# Altium schematic symbol library WISP_AD10.SchLib: 48 symbols
Pins are listed as number, name and electrical type; pins without a type are passive.

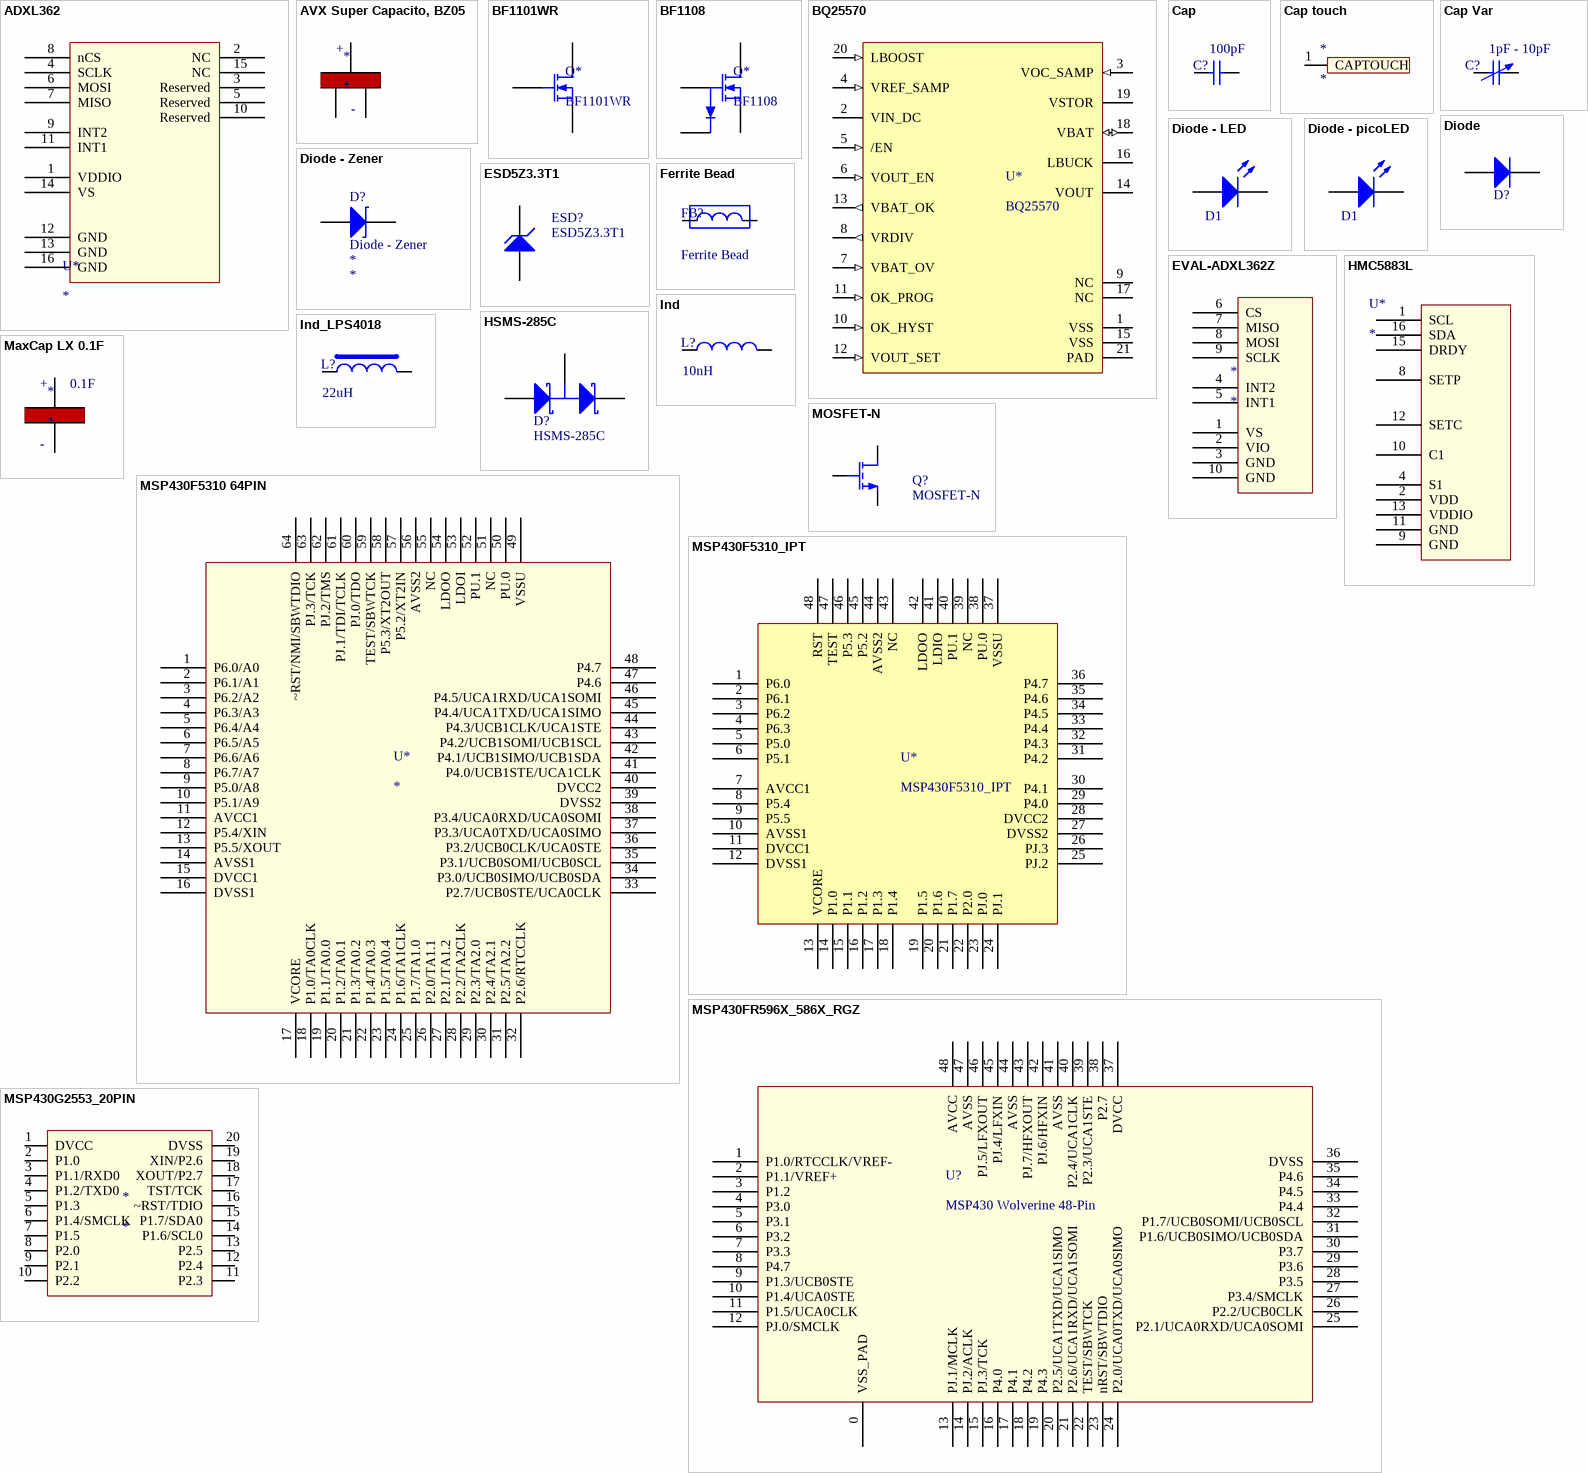
[diagram p0: symbols ADXL362 to MSP430G2553_20PIN]

## ADXL362
designator U*
Analog Devices low power accelerometer
footprint ADXL362
pins: 1 VDDIO, 2 NC, 3 Reserved, 4 SCLK, 5 Reserved, 6 MOSI, 7 MISO, 8 nCS, 9 INT2, 10 Reserved, 11 INT1, 12 GND, 13 GND, 14 VS, 15 NC, 16 GND

## AVX Super Capacito, BZ05
designator *
AVX Super Capacito, BZ05
footprint SuperCap_BZ05 (SOT-323/SC-70; 3 Leads; HSMS-285C)
pins: 1 Positive (power), 2 NEGATIVE (power), 3 NEGATIVE (power)
text: +; -

## BF1101WR
designator Q*
N-Channel Dual-Gate Mos-Fets MOSFET, SOT343R; Manufacturer Part Number: BF1101WR,115; Manufacturer: NXP Semiconductors; Digi-Key Part Number: 568-6140-1-ND; Rating: *; Value: *; Note: *
footprint SOT343R (SOT343R - Package for BF1101WR)
pins: 1 S, 2 D, 3 G

## BF1108
designator Q*
N-Channel Dual-Gate Mos-Fets MOSFET, SOT343R; Manufacturer Part Number: BF1108; BF1108R; Manufacturer: NXP Semiconductors; Rating: *; Value: *; Note: *
footprint SOT143B (SOT343R - Package for BF1101WR)
pins: 1 FET Gate, 2 Diode Cathode, 3 Source, 4 Drain

## BQ25570
designator U*
Boost Charger; Manufacturer: Texas Instruments; Digi-Key Part Number: 296-37014-1-ND; Manufacturer Part Number: bq25570; Rating: *; Value: *; Note: *
footprint BQ25570 (Boost Charger)
pins: 1 VSS, 2 VIN_DC, 3 VOC_SAMP (in), 4 VREF_SAMP (in), 5 /EN (in), 6 VOUT_EN (in), 7 VBAT_OV (in), 8 VRDIV (out), 9 NC, 10 OK_HYST (in), 11 OK_PROG (in), 12 VOUT_SET (in), 13 VBAT_OK (out), 14 VOUT, 15 VSS, 16 LBUCK, 17 NC, 18 VBAT (io), 19 VSTOR, 20 LBOOST (in), 21 PAD

## Cap
designator C?  value 100pF  (hidden comment: Cap)
Ceramic Capacitor (Surface Mount); Manufacturer: Generic Ceramic Chip Cap (TBD); Digi-Key Part Number: *; Manufacturer Part Number: *; Note: *; Rating: *
footprint 0402 (Surface Mount; Body 1 x 0.5 mm (LxW typ))
footprint 0402-W (Surface Mount - Wide; Body 1.0 x 0.5 mm (LxW typ))
footprint 0603 (Surface Mount; Body 1.6 x 0.8 mm (LxW typ))
footprint 0603-W (Surface Mount - Wide; Body 1.6 x 0.8 mm (LxW typ))
footprint 0805 (Surface Mount; Body 2.0 x 1.25 mm (LxW typ))
footprint 0805-W (Surface Mount - Wide; Body 2.0 x 1.25 mm (LxW typ))
footprint 1206 (Surface Mount; Body 3.2 x 1.6 mm (LxW typ))
footprint 1206-W (Surface Mount - Wide; Body 3.2 x 1.6 mm (LxW typ))
footprint 1210 (Surface Mount; Body 3.2 x 2.5 mm (LxW typ))
footprint 1210-W (Chip Capacitor; Body 3.2 x 2.5 mm (LxW typ))
pins: 1, 2

## Cap touch
designator *
footprint CAPTOUCH-15mm
pins: 1 CAPTOUCH

## Cap Var
designator C?  value 1pF - 10pF  (hidden comment: Cap Var)
Variable or Adjustable Capacitor; Manufacturer: *; Manufacturer Part Number: *; Digi-Key Part Number: *; Rating: *
footprint Var-Cap_0603_Small (Var-Cap 0603 Compatible High-Q, DK#490-2011-1-ND)
pins: 1, 2

## Diode
designator D?  (value not drawn)
General Purpose Diode; Manufacturer: *; Manufacturer Part Number: *; Digi-Key Part Number: *; Value: *; Rating: *; Note: *
footprint Diode - SOD128 (Diode: Body 1.6 x 0.8 mm (LxW typ))
footprint DIODE - SOD123 (SOD-123; 2 Leads; Body 2.7 x 1.6 mm, (LxW))
footprint SOD-523 (SOD-523 Footprint)
pins: 1 A, 2 C

## Diode - LED
designator D1, comment LED  (value not drawn)
Typical RED, GREEN, YELLOW, AMBER GaAs LED; Digi-Key Part Number: *; Manufacturer: *; Manufacturer Part Number: *; Note: *; Value: *; Rating: *
footprint Diode - 0603 (Diode: Body 1.6 x 0.8 mm (LxW typ))
pins: 1 A, 2 K

## Diode - picoLED
designator D1, comment LED  (value not drawn)
Typical RED, GREEN, YELLOW, AMBER GaAs LED; Digi-Key Part Number: *; Manufacturer: *; Manufacturer Part Number: *; Note: *; Value: *; Rating: *
footprint Diode - 0402 (Diode: Body 1.6 x 0.8 mm (LxW typ))
pins: 1 A, 2 K

## Diode - Zener
designator D?
Manufacturer Part Number: *; Manufacturer: *; Digi-Key Part Number: *; Note: *; Value: *; Rating: *
footprint SOD-523 (SOD-523 Footprint)
pins: 1 A, 2 K

## ESD5Z3.3T1
designator ESD?
5V Overvoltage Protection Zener; Manufacturer Part Number: ESD5Z3.3T1G; Manufacturer: ON Semiconductor; Digi-Key Part Number: ESD5Z3.3T1GOSCT-ND; Value: *; Rating: *; Note: *
footprint SOD-523 (SOD-523 Footprint)
pins: 1 C, 2 A

## EVAL-ADXL362Z
designator *
footprint EVAL-ADXL362Z
pins: 1 VS, 2 VIO, 3 GND, 4 INT2, 5 INT1, 6 CS, 7 MISO, 8 MOSI, 9 SCLK, 10 GND

## Ferrite Bead
designator FB?
Ferrite bead, RF choke; Manufacturer: example: Taiyo Yuden; Manufacturer Part Number: example: BK1608HS330-T; Digi-Key Part Number: example: 587-1871-1-ND; Rating: *; Note: *; Value: *
footprint 0402 (Surface Mount; Body 1 x 0.5 mm (LxW typ))
footprint 0402-W (Surface Mount - Wide; Body 1.0 x 0.5 mm (LxW typ))
footprint 0603 (Surface Mount; Body 1.6 x 0.8 mm (LxW typ))
footprint 0603-W (Surface Mount - Wide; Body 1.6 x 0.8 mm (LxW typ))
footprint 0805 (Surface Mount; Body 2.0 x 1.25 mm (LxW typ))
footprint 0805-W (Surface Mount - Wide; Body 2.0 x 1.25 mm (LxW typ))
footprint 1206 (Surface Mount; Body 3.2 x 1.6 mm (LxW typ))
footprint 1206-W (Surface Mount - Wide; Body 3.2 x 1.6 mm (LxW typ))
pins: 1, 2

## HMC5883L
designator U*
3-Axis Digital Magnetometer
footprint HMC5883L LCC16 0.5mm pitch
pins: 1 SCL, 2 VDD, 3 NC hidden, 4 S1, 5 NC hidden, 6 NC hidden, 7 NC hidden, 8 SETP, 9 GND, 10 C1, 11 GND, 12 SETC, 13 VDDIO, 14 NC hidden, 15 DRDY, 16 SDA

## HSMS-285C
designator D?
Agilent Schottky Diode, Two in Series, Small Package SOT-323; Manufacturer: Avago Technologies US Inc.; Note: *; Digi-Key Part Number: *not stocked; Manufacturer Part Number: HSMS-285C; Rating: *; Value: *
footprint SOT-323, HSMS-285C (SOT-323/SC-70; 3 Leads; HSMS-285C)
pins: 1 A, 2 K, 3 C

## Ind
designator L?  value 10nH  (hidden comment: Ind)
Inductor (Surface Mount); Digi-Key Part Number: *; Manufacturer: *; Manufacturer Part Number: *; Rating: *; Note: *
footprint 0402 (Surface Mount; Body 1 x 0.5 mm (LxW typ))
footprint 0402-W (Surface Mount - Wide; Body 1.0 x 0.5 mm (LxW typ))
footprint 0603 (Surface Mount; Body 1.6 x 0.8 mm (LxW typ))
footprint 0603-W (Surface Mount - Wide; Body 1.6 x 0.8 mm (LxW typ))
footprint 0805 (Surface Mount; Body 2.0 x 1.25 mm (LxW typ))
footprint 0805-W (Surface Mount - Wide; Body 2.0 x 1.25 mm (LxW typ))
footprint 1206 (Surface Mount; Body 3.2 x 1.6 mm (LxW typ))
footprint 1206-W (Surface Mount - Wide; Body 3.2 x 1.6 mm (LxW typ))
footprint 1210 (Surface Mount; Body 3.2 x 2.5 mm (LxW typ))
footprint 1210-W (Chip Capacitor; Body 3.2 x 2.5 mm (LxW typ))
pins: 1, 2

## Ind_LPS4018
designator L?, comment value 22uH  (hidden comment: Ind_LPs4018)
Inductor (Surface Mount); Manufacturer: Coil Craft; Digi-Key Part Number: *; Manufacturer Part Number: *; Rating: *; Note: *
footprint LPS4018 (Inductor)
pins: 1, 2

## MaxCap LX 0.1F
designator *
MaxCap LX 0.1F, low leakage supper cap 5.5v
footprint Maxcap LX 0.1F (Maxcap LX Series, 0.1F, Diameter  11mm, Leads 5.1mm)
pins: 1 Positive (power), 2 GND (power)
text: +; 0.1F; -

## MOSFET-N
designator Q?
N-Channel MOSFET; Digi-Key Part Number: *; Manufacturer Part Number: *; Manufacturer: *; Notes: *; Rating: *
footprint SOT23 - N (SOT23, 3-Leads, Body 2.9x1.3mm, Pitch 0.95mm, Lead Span 2.3mm - Reverse Pinning, IPC Medium Density)
pins: 1 G, 2 S, 3 D

## MSP430F5310 64PIN
designator U*
16-bit Low Power Microcontroller
footprint MSP430F5310 LCC64
pins: 1 P6.0/A0, 2 P6.1/A1, 3 P6.2/A2, 4 P6.3/A3, 5 P6.4/A4, 6 P6.5/A5, 7 P6.6/A6, 8 P6.7/A7, 9 P5.0/A8, 10 P5.1/A9, 11 AVCC1, 12 P5.4/XIN, 13 P5.5/XOUT, 14 AVSS1, 15 DVCC1, 16 DVSS1, 17 VCORE, 18 P1.0/TA0CLK, 19 P1.1/TA0.0, 20 P1.2/TA0.1, 21 P1.3/TA0.2, 22 P1.4/TA0.3, 23 P1.5/TA0.4, 24 P1.6/TA1CLK, 25 P1.7/TA1.0, 26 P2.0/TA1.1, 27 P2.1/TA1.2, 28 P2.2/TA2CLK, 29 P2.3/TA2.0, 30 P2.4/TA2.1, 31 P2.5/TA2.2, 32 P2.6/RTCCLK, 33 P2.7/UCB0STE/UCA0CLK, 34 P3.0/UCB0SIMO/UCB0SDA, 35 P3.1/UCB0SOMI/UCB0SCL, 36 P3.2/UCB0CLK/UCA0STE, 37 P3.3/UCA0TXD/UCA0SIMO, 38 P3.4/UCA0RXD/UCA0SOMI, 39 DVSS2, 40 DVCC2, 41 P4.0/UCB1STE/UCA1CLK, 42 P4.1/UCB1SIMO/UCB1SDA, 43 P4.2/UCB1SOMI/UCB1SCL, 44 P4.3/UCB1CLK/UCA1STE, 45 P4.4/UCA1TXD/UCA1SIMO, 46 P4.5/UCA1RXD/UCA1SOMI, 47 P4.6, 48 P4.7, 49 VSSU, 50 PU.0, 51 NC, 52 PU.1, 53 LDOI, 54 LDOO, 55 NC, 56 AVSS2, 57 P5.2/XT2IN, 58 P5.3/XT2OUT, 59 TEST/SBWTCK, 60 PJ.0/TDO, 61 PJ.1/TDI/TCLK, 62 PJ.2/TMS, 63 PJ.3/TCK, 64 ~RST/NMI/SBWTDIO

## MSP430F5310_IPT
designator U*
IC MCU 16BIT 32KB FLASH 48LQFP, MSP430F5310_IPT; Manufacturer: Texas Instruments; Manufacturer Part Number: MSP430F5310IPTR; Digi-Key Part Number: 296-28193-2-ND; Rating: *; Value: *; Note: *
footprint PT48_L (Thin QFP, 48-Leads, Body 7x7mm, Pitch 0.5mm, IPC High Density)
pins: 1 P6.0, 2 P6.1, 3 P6.2, 4 P6.3, 5 P5.0, 6 P5.1, 7 AVCC1, 8 P5.4, 9 P5.5, 10 AVSS1, 11 DVCC1, 12 DVSS1, 13 VCORE, 14 P1.0, 15 P1.1, 16 P1.2, 17 P1.3, 18 P1.4, 19 P1.5, 20 P1.6, 21 P1.7, 22 P2.0, 23 PJ.0, 24 PJ.1, 25 PJ.2, 26 PJ.3, 27 DVSS2, 28 DVCC2, 29 P4.0, 30 P4.1, 31 P4.2, 32 P4.3, 33 P4.4, 34 P4.5, 35 P4.6, 36 P4.7, 37 VSSU, 38 PU.0, 39 NC, 40 PU.1, 41 LDIO, 42 LDOO, 43 NC, 44 AVSS2, 45 P5.2, 46 P5.3, 47 TEST, 48 RST

## MSP430FR596X_586X_RGZ
designator U?, comment MSP430 Wolverine 48-Pin
16-bit FRAM MCU
footprint MSP_QFN48_RGZ_PAD0
pins: 0 VSS_PAD, 1 P1.0/RTCCLK/VREF-, 2 P1.1/VREF+, 3 P1.2, 4 P3.0, 5 P3.1, 6 P3.2, 7 P3.3, 8 P4.7, 9 P1.3/UCB0STE, 10 P1.4/UCA0STE, 11 P1.5/UCA0CLK, 12 PJ.0/SMCLK, 13 PJ.1/MCLK, 14 PJ.2/ACLK, 15 PJ.3/TCK, 16 P4.0, 17 P4.1, 18 P4.2, 19 P4.3, 20 P2.5/UCA1TXD/UCA1SIMO, 21 P2.6/UCA1RXD/UCA1SOMI, 22 TEST/SBWTCK, 23 nRST/SBWTDIO, 24 P2.0/UCA0TXD/UCA0SIMO, 25 P2.1/UCA0RXD/UCA0SOMI, 26 P2.2/UCB0CLK, 27 P3.4/SMCLK, 28 P3.5, 29 P3.6, 30 P3.7, 31 P1.6/UCB0SIMO/UCB0SDA, 32 P1.7/UCB0SOMI/UCB0SCL, 33 P4.4, 34 P4.5, 35 P4.6, 36 DVSS, 37 DVCC, 38 P2.7, 39 P2.3/UCA1STE, 40 P2.4/UCA1CLK, 41 AVSS, 42 PJ.6/HFXIN, 43 PJ.7/HFXOUT, 44 AVSS, 45 PJ.4/LFXIN, 46 PJ.5/LFXOUT, 47 AVSS, 48 AVCC

## MSP430G2553_20PIN
designator *
16-bit Value Line MSP430
footprint 20TSSOP-0.65-PITCH
pins: 1 DVCC, 2 P1.0, 3 P1.1/RXD0, 4 P1.2/TXD0, 5 P1.3, 6 P1.4/SMCLK, 7 P1.5, 8 P2.0, 9 P2.1, 10 P2.2, 11 P2.3, 12 P2.4, 13 P2.5, 14 P1.6/SCL0, 15 P1.7/SDA0, 16 ~RST/TDIO, 17 TST/TCK, 18 XOUT/P2.7, 19 XIN/P2.6, 20 DVSS

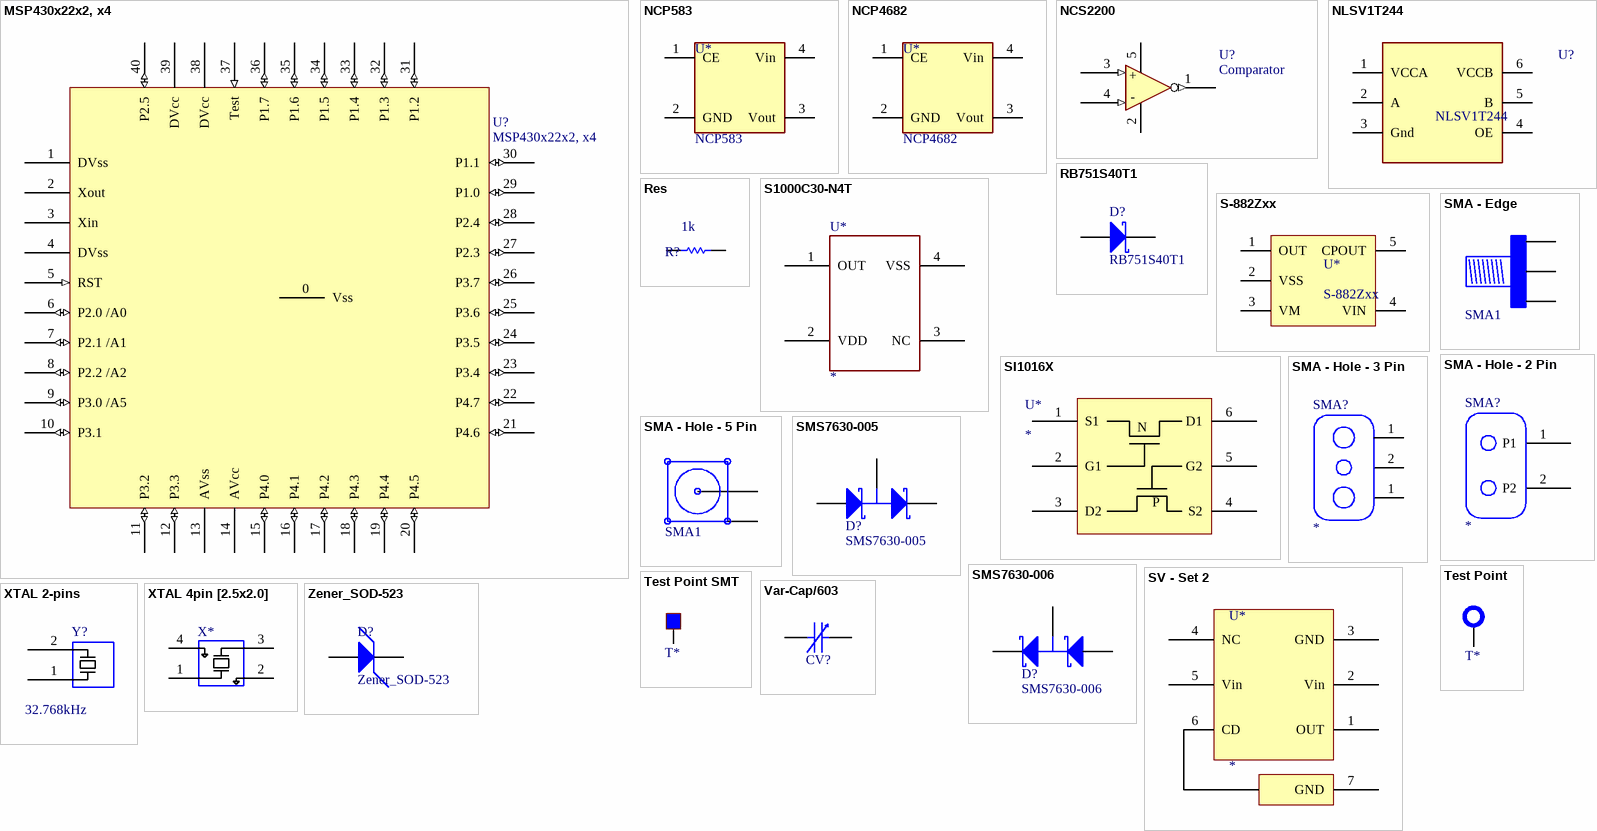
[diagram p1: symbols MSP430x22x2, x4 to Zener_SOD-523]

## MSP430x22x2, x4
designator U?
40QFN - MSP430x22x2, x4; Manufacturer: Texas Instruments; Manufacturer Part Number: MSP430F2272IRHAT (several variants); Note: *; Digi-Key Part Number: 296-21441-1-ND (several variants)
footprint 40-QFN (40-QFN, for MSP430x22x2, x4)
pins: 0 Vss (power) "Output", 1 DVss (power) "Output", 2 Xout "Output", 3 Xin "Output", 4 DVss (power) "Output", 5 RST (in), 6 P2.0 /A0 (io), 7 P2.1 /A1 (io), 8 P2.2 /A2 (io), 9 P3.0 /A5 (io), 10 P3.1 (io), 11 P3.2 (io), 12 P3.3 (io), 13 AVss (power), 14 AVcc (power), 15 P4.0 (io), 16 P4.1 (io), 17 P4.2 (io), 18 P4.3  (io), 19 P4.4 (io), 20 P4.5 (io), 21 P4.6 (io), 22 P4.7 (io), 23 P3.4 (io), 24 P3.5 (io), 25 P3.6 (io), 26 P3.7 (io), 27 P2.3 (io), 28 P2.4 (io), 29 P1.0 (io), 30 P1.1 (io), 31 P1.2 (io), 32 P1.3 (io), 33 P1.4 (io), 34 P1.5 (io), 35 P1.6 (io), 36 P1.7 (io), 37 Test (in), 38 DVcc (power), 39 DVcc (power), 40 P2.5 (io)

## NCP583
designator U*
Regulator: Ultra-Low Iq 150mA CMOS LDO Regulator with Enable; Manufacturer: ON Semiconductor; Manufacturer Part Number: NCP583SQ18T1G; Digi-Key Part Number: NCP583SQ18T1GOSCT-ND; Rating: *; Value: *; Note: *
footprint SC82-AB
pins: 1 CE, 2 GND, 3 Vout, 4 Vin

## NCP4682
designator U*
Regulator: LDO  NCP4682 (with enable) / NCP4685 (without); Manufacturer: ON Semiconductor; Manufacturer Part Number: NCP4682DSQ18T1G; Digi-Key Part Number: NCP4682DSQ18T1GOSCT-ND; Rating: *; Value: *; Note: *
footprint SC82-AB
pins: 1 CE, 2 GND, 3 Vout, 4 Vin

## NCS2200
designator U?, comment Comparator
Comparator: On Semi 10uA Comparator; Manufacturer: ON Semiconductor; Manufacturer Part Number: NCS2200SQ2T2G; Digi-Key Part Number: NCS2200SQ2T2GOSTR-ND; Rating: *; Value: *; Note: *
footprint SC70-5
pins: 1 OUT (out) "Output", 2 Gnd (power), 3 IN+ (in) "Positive Input", 4 In- (in) "Inverting Input", 5 VDD (power)
text: +; -

## NLSV1T244
designator U?
Level Shifter: 1-Bit Dual-Supply Non-Inverting Level Translator; Manufacturer Part Number: NLSV1T244MUTBG; Manufacturer: ON Semiconductor; Digi-Key Part Number: NLSV1T244MUTBG-ND; Rating: *; Value: *; Note: *
footprint UDFN6 (UDFN6 - Level Shifter -  NLSV1T244)
footprint UDFN6 - Long (UDFN6 - Level Shifter -  NLSV1T244)
pins: 1 VCCA (power) "VDDA", 2 A "Low Voltage IO", 3 Gnd (power), 4 OE "Enable Output Translation", 5 B "High Voltage IO", 6 VCCB (power) "VDDY"

## RB751S40T1
designator D?
Schottky Diode; Published: 8-Jun-2000; LatestRevisionDate: 17-Jul-2002; LatestRevisionNote: Re-released for DXP Platform.; PackageReference: SMB; Publisher: Altium Limited; Code_JEDEC: DO-214-AA
footprint SOD-523 (SOD-523 Footprint)
pins: 1 C, 2 A

## Res
designator R?  value 1k  (hidden comment: Res)
Chip Resistor (Surface Mount); Manufacturer: Generic Chip Res (TBD); Manufacturer Part Number: *; Digi-Key Part Number: *; Rating: *
footprint 0402 (Surface Mount; Body 1 x 0.5 mm (LxW typ))
footprint 0402-W (Surface Mount - Wide; Body 1.0 x 0.5 mm (LxW typ))
footprint 0603 (Surface Mount; Body 1.6 x 0.8 mm (LxW typ))
footprint 0603-W (Surface Mount - Wide; Body 1.6 x 0.8 mm (LxW typ))
footprint 0805 (Surface Mount; Body 2.0 x 1.25 mm (LxW typ))
footprint 0805-W (Surface Mount - Wide; Body 2.0 x 1.25 mm (LxW typ))
footprint 1206 (Surface Mount; Body 3.2 x 1.6 mm (LxW typ))
footprint 1206-W (Surface Mount - Wide; Body 3.2 x 1.6 mm (LxW typ))
footprint 1210 (Surface Mount; Body 3.2 x 2.5 mm (LxW typ))
footprint 1210-W (Chip Capacitor; Body 3.2 x 2.5 mm (LxW typ))
pins: 1, 2

## S1000C30-N4T
designator U*
Ultra-small package High precision protection(SC82-AB)
footprint SC82-AB
pins: 1 OUT, 2 VDD, 3 NC, 4 VSS

## S-882Zxx
designator U*
ULTRA-LOW VOLTAGE OPERATION CHARGE PUMP IC  FOR STEP-UP DC-DC CONVERTER STARTUP; Manufacturer: Seiko Instruments; Digi-Key Part Number: S-882Z20-M5T1G-ND; Rating: *; Note: *; Manufacturer Part Number: S-882Zxx; Value: *
footprint SOT23-5
pins: 1 OUT, 2 VSS, 3 VM, 4 VIN, 5 CPOUT

## SI1016X
designator U*
NMOS and PMOS array
footprint SC-89-6 Vishay
pins: 1 S1, 2 G1, 3 D2, 4 S2, 5 G2, 6 D1
text: N; P

## SMA - Edge
designator SMA1  (value not drawn)
SMA - Board Edge Connector; Note: *; Digi-Key Part Number: *; Manufacturer Part Number: *; Manufacturer: *
footprint SMA - Edge - Wide (SMA - Board Edge Connector, Wide Body = .375in, no gnd pad)
footprint SMA - Edge - Narrow (SMA - Board Edge Connector, Narrow body = 0.25in)
pins: 1, 1, 2

## SMA - Hole - 2 Pin
designator SMA?
Two pin SMA connector wisp; Note: Not a part do not populate
footprint SMA - Hole - 2 Pin (SMA port for wisp)
pins: 1 P1 "Output", 2 P2 "Output"

## SMA - Hole - 3 Pin
designator SMA?
Two pin SMA connector wisp; Note: Not a part do not populate
footprint SMA - Hole - 3 Pin (SMA Through Hole Connector 3 pins)
pins: 1 P1 "Output", 1 P1 "Output", 2 P2 "Output"

## SMA - Hole - 5 Pin
designator SMA1  (value not drawn)
SMA - Through Hole Connector; Manufacturer Part Number: *; Manufacturer: *; Digi-Key Part Number: *; Note: *
footprint SMA - Hole - 5 Pin (SMA Through Hole Connector)
pins: 1, 2

## SMS7630-005
designator D?
Agilent Schottky Diode, Two in Series, Small Package SOT-323; Manufacturer: Avago Technologies US Inc.; Manufacturer Part Number: HSMS-285C; Note: *; Digi-Key Part Number: *not stocked; Rating: *; Value: *
footprint SOT-323, HSMS-285C (SOT-323/SC-70; 3 Leads; HSMS-285C)
footprint SOT23 - N (SOT23, 3-Leads, Body 2.9x1.3mm, Pitch 0.95mm, Lead Span 2.3mm - Reverse Pinning, IPC Medium Density)
pins: 1 A, 2 K, 3 C

## SMS7630-006
designator D?
Agilent Schottky Diode, Two in Series, Small Package SOT-323; Manufacturer: Avago Technologies US Inc.; Manufacturer Part Number: HSMS-285C; Note: *; Digi-Key Part Number: *not stocked; Rating: *; Value: *
footprint SOT-323, HSMS-285C (SOT-323/SC-70; 3 Leads; HSMS-285C)
pins: 1 A, 2 K, 3 C

## SV - Set 2
designator U*
Ultra small package High precision voltage protection(SOT-23-5); Note: This foot print (or set of footprint) can be used for multiple supervisor form different manufactures. In some case a capacitor or resistors in necessary. Not for production use as it.
footprint SV - Set 2 (S-1000 (SOT-23-5, SC-82);  S1009 (SOT-23-5);  XC61C (SC-82, SOT-23);  NCP300 (SOT-23-5))
pins: 1 OUT, 2 Vin, 3 GND, 4 NC, 5 Vin, 6 CD, 7 GND

## Test Point
designator T*  (value not drawn)
Test Point, large or small foot prints; Manufacturer Part Number: Example: 5000, 5013; Manufacturer: Keystone Electronics; Digi-key: Example: 5000K-ND, 5012K-ND; Note: *; Rating: *; Value: *
footprint Test Point - Small (Test Point, 40mil hole, example DK: 5000K-ND)
footprint Test Point - Large (Test Point, 63mil hole, example DK: 5012K-ND)
pins: 0

## Test Point SMT
designator T*  (value not drawn)
Test Point, Flat Pad; Manufacturer Part Number: Example: 5000, 5013; Manufacturer: Keystone Electronics; Digi-key: Example: 5000K-ND, 5012K-ND; Note: *; Rating: *; Value: *
footprint SMT_TESTPOINT_2MM
pins: 1

## Var-Cap/603
designator CV?, comment Var Cap  (value not drawn)
Var-Cap 603 Compatible, DK: 490-2009 & SG2026CT; DNS: Do Not Stuff Part; Part Number: *; Digi-Key PN: 490-2009 & SG2026CT
footprint Var-Cap_0603_Large (Var-Cap 603 Compatible, DK: 490-2009 & SG2026CT)
footprint Var-Cap_0603_Small (Var-Cap 0603 Compatible High-Q, DK#490-2011-1-ND)
pins: 1 "Output", 2 "Output"

## XTAL 2-pins
designator Y?, comment value 32.768kHz  (hidden comment: XTAL)
Crystal Oscillator - [3.20mm x 1.50mm]; Manufacturer: Epson Toyocom Corporation; Manufacturer Part Number: FC-135 32.7680KA-A3; Digi-Key Part Number: example: SE2413CT-ND
footprint XTAL [3.20mm x 1.50mm] (FC-135   crystal - epson eletronics)
pins: 1 (power) "Output", 2 (power) "Output"

## XTAL 4pin [2.5x2.0]
designator X*  (value not drawn)
4-Pin Surface Mount; Manufacturer Part Number: NX2520SA-26.000000MHZ-B9; Manufacturer: NDK; Digi-Key Part Number: 644-1095-1-ND; Note: NX2520SA-26.000000MHZ-B9; Rating: *; Value: *
footprint XTAL 2.5mm x 2.0mm (CRYSTAL, 2.5mm x 2.0mm,  4Pin)
pins: 1 XIN, 2 Gnd, 3 XOUT, 4 Gnd

## Zener_SOD-523
designator D?
Diode - Zener; Manufacturer Part Number: *; Manufacturer: *; Digi-Key Part Number: *; Note: *
footprint Zener_SOD-523 (Zener Diod)
pins: 1 A, 2 K